# EAGLE library part π122X3X (library π12XX3X)
Check availability <https://pricing.snapeda.com/parts/ISO7421D/Texas%20Instruments/view-part?ref=eda>
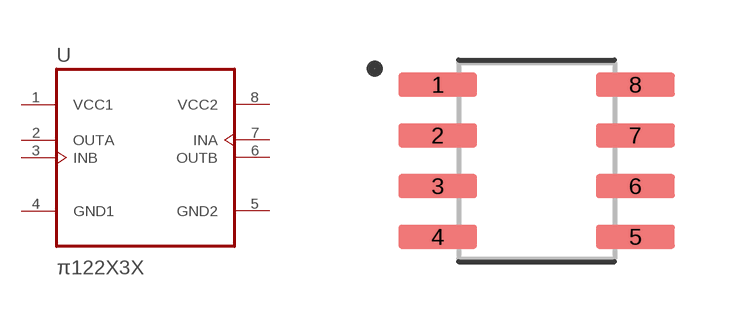
[diagram p1: symbol with the pads of SOIC-8; footprint SOIC-8]

Designator prefix U

## π122X3X (AVAILABILITY: In Stock; DESCRIPTION: Dual-channel, 1/1, 1-Mbps digital isolator; MF: Texas Instruments; MP: ISO7421D; PACKAGE: SOIC-8 Texas Instruments; PRICE: None; PURCHASE-URL: https://pricing.snapeda.com/search/part/ISO7421D/?ref=eda)  [SOIC-8]
1  VCC1  pwr
2  OUTA  out
3  INB  in
4  GND1  pwr
5  GND2  pwr
6  OUTB  out
7  INA  in
8  VCC2  pwr

## Footprint SOIC-8 (pad centres in mm)
smd 1.97 x 0.6: 1 -2.47,1.905; 2 -2.47,0.635; 3 -2.47,-0.635; 4 -2.47,-1.905; 5 2.47,-1.905; 6 2.47,-0.635; 7 2.47,0.635; 8 2.47,1.905